# Altium schematic symbol library SW-SPST.Schlib: 1 symbol
Pins are listed as number, name and electrical type; pins without a type are passive.

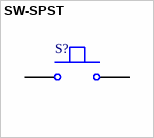
[diagram p0: symbol SW-SPST]

## SW-SPST
designator S?
pins: 1, 2